# Altium footprint library 23018281.PcbLib: 1 footprints
Each footprint in its own frame and in the unit in brackets; x right, y up, seen from the top. Pads: shape width x height; smd on the part's side, far side on the other; paste and mask are expansions set on the pad; w line width, h text height; cw(c..) or ccw(c..) is an arc to the next point about the centre after c.
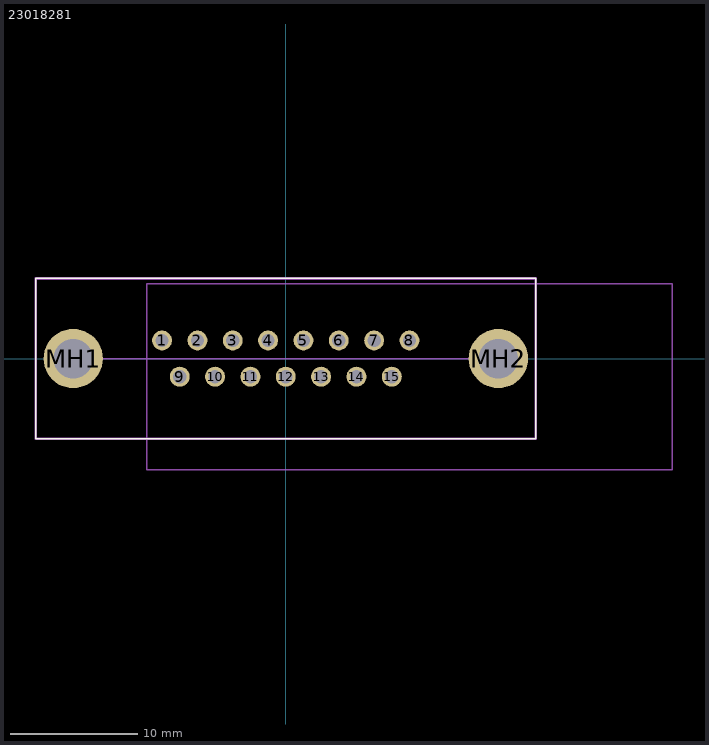
[diagram p0: the footprint, top view; thin cyan lines are the x and y axes]

## 23018281 [mm]
pads (17):
  round 1.56 hole 1.04: 1(-9.695,1.42) 2(-6.925,1.42) 3(-4.155,1.42) 4(-1.385,1.42) 5(1.385,1.42) 6(4.155,1.42) 7(6.925,1.42) 8(9.695,1.42) 9(-8.31,-1.42) 10(-5.54,-1.42) 11(-2.77,-1.42) 12(0,-1.42) 13(2.77,-1.42) 14(5.54,-1.42) 15(8.31,-1.42)
  round 4.65 hole 3.1: MH1(-16.66,0) MH2(16.66,0)
Top Overlay:
  lines w0.1: -19.59,-6.275 -19.59,6.275 19.59,6.275 19.59,-6.275 -19.59,-6.275
Top Assembly:
  lines w0.1: -16.66,0 16.66,0
Mechanical 15:
  lines w0.2: -19.59,-6.275 -19.59,6.275 19.59,6.275 19.59,-6.275 -19.59,-6.275
Mechanical 20:
  lines w0.1: -10.895,-8.695 30.285,-8.695 30.285,5.855 -10.895,5.855 -10.895,-8.695
3D body "2301828-1.stp": height 13, standoff -4.15, extent -19.585,-6.255 19.595,6.295